# Altium footprint library PcbLib1.PcbLib: 1 footprints
Each footprint in its own frame and in the unit in brackets; x right, y up, seen from the top. Pads: shape width x height; smd on the part's side, far side on the other; paste and mask are expansions set on the pad; w line width, h text height; cw(c..) or ccw(c..) is an arc to the next point about the centre after c.
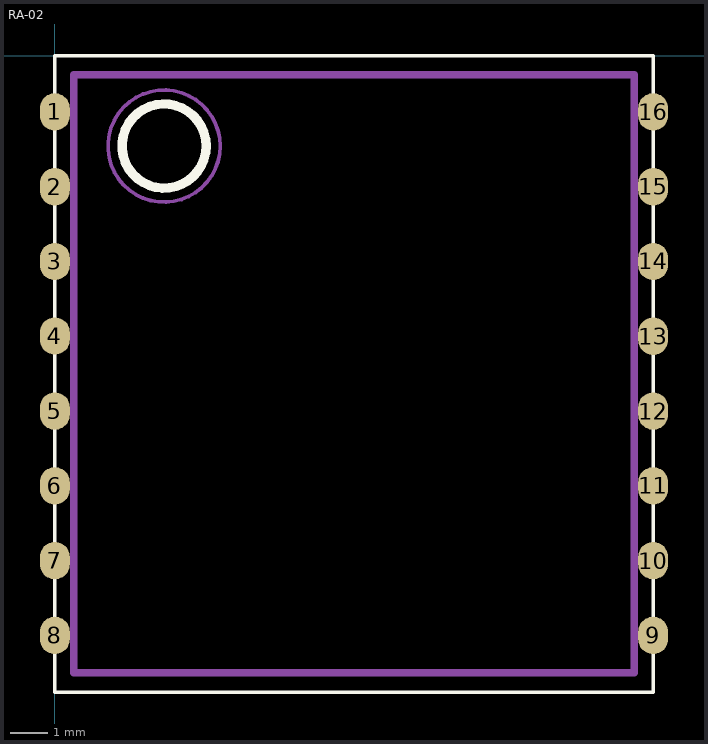
[diagram p0: the footprint, top view; thin cyan lines are the x and y axes]

## RA-02 [mm]
pads (16):
  oval 0.8x1 smd: 1(0,-1.5) 2(0,-3.5) 3(0,-5.5) 4(0,-7.493) 5(0,-9.5) 6(0,-11.5) 7(0,-13.5) 8(0,-15.5) 9(16,-15.5) 10(16,-13.5) 11(16,-11.5) 12(16,-9.5) 13(16,-7.5) 14(16,-5.5) 15(16,-3.5) 16(16,-1.5)
Top Overlay:
  circle w0.25: c2.921,-2.413 r1.125
  lines w0.1: 0,-17.018 16,-17.018 ; 0,-17 0,0 16,0 ; 16.002,-17 16.002,0
Mechanical 1:
  lines w0.2: 0.5,-16.5 0.5,-0.5 15.5,-0.5 15.5,-16.5 0.5,-16.5
Mechanical 13:
  circle w0.1: c2.921,-2.413 r1.5
3D body "User Library-RA-02.step": height 3.2, standoff 0, extent 0.001,-17.009 16.001,-0.009